# Altium schematic symbol library SolarPanels.SCHLIB: 3 symbols
Pins are listed as number, name and electrical type; pins without a type are passive.

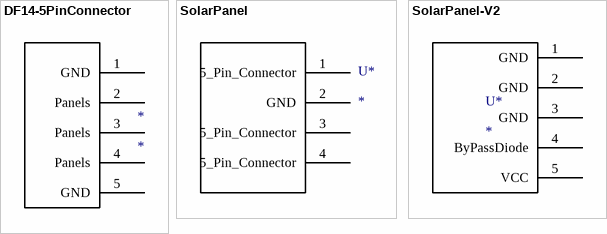
[diagram p0: symbols DF14-5PinConnector to SolarPanel-V2]

## DF14-5PinConnector
designator *
footprint DF14- 5P-1.25H (5 Pin Connector)
pins: 1 GND, 2 Panels, 3 Panels, 4 Panels, 5 GND

## SolarPanel
designator U*
footprint SolarPanel
footprint SolarPanel_V2 (Panels from Azurspace)
pins: 1 5_Pin_Connector (power), 2 GND "Connect to the 5 Pin Connector", 3 5_Pin_Connector (power), 4 5_Pin_Connector (power)

## SolarPanel-V2
designator U*
footprint SolarPanel_V2 (Panels from Azurspace)
pins: 1 GND (power), 2 GND "Connect to the 5 Pin Connector", 3 GND (power), 4 ByPassDiode (power), 5 VCC